# Altium schematic symbol library TPS63051RMWR.SchLib: 2 symbols
Pins are listed as number, name and electrical type; pins without a type are passive.

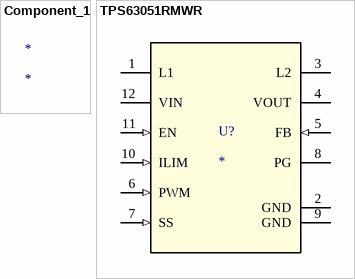
[diagram p0: symbols Component_1 to TPS63051RMWR]

## Component_1
designator *

## TPS63051RMWR
designator U?
No Description Available; Mfr_Name: Texas Instruments; PartNumber: TPS63051RMWR; Alternate_PartNumber: TPS63051RMWT; CompType: IC; TYPE: TYPE; RefDes: RefDes; Application_BuildNumber: *; PackageReference: RMW0012A; MountType: SMT; RoHS: Y; Manufacturer: Texas Instruments
footprint RMW0012A
pins: 1 L1, 2 GND (power), 3 L2, 4 VOUT (power), 5 FB (in), 6 PWM (in), 7 SS (in), 8 PG (oc), 9 GND (power), 10 ILIM (in), 11 EN (in), 12 VIN (power)